# Altium schematic symbol library 691322310002.SchLib: 1 symbol
Pins are listed as number, name and electrical type; pins without a type are passive.

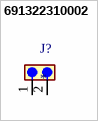
[diagram p0: symbol 691322310002]

## 691322310002
designator J?
2 Position Terminal Block Header, Male Pins, Shrouded (4 Side) 0.150 (3.81mm) 90Â°, Right Angle - Through Hole; MF: Wurth Electronics; MP: 691322310002; SnapEDA_Link: https://www.snapeda.com/parts/691322310002/Wurth+Electronics+Inc./view-part/?ref=snap; Package: None; Value: *; Check_prices: https://www.snapeda.com/parts/691322310002/Wurth+Electronics+Inc./view-part/?ref=eda
footprint 691322310002
pins: 1, 2